# Altium footprint library PulseGenFPLib.PcbLib: 39 footprints (part 2 of 3)
Each footprint in its own frame and in the unit in brackets; x right, y up, seen from the top. Pads: shape width x height; smd on the part's side, far side on the other; paste and mask are expansions set on the pad; w line width, h text height; cw(c..) or ccw(c..) is an arc to the next point about the centre after c.
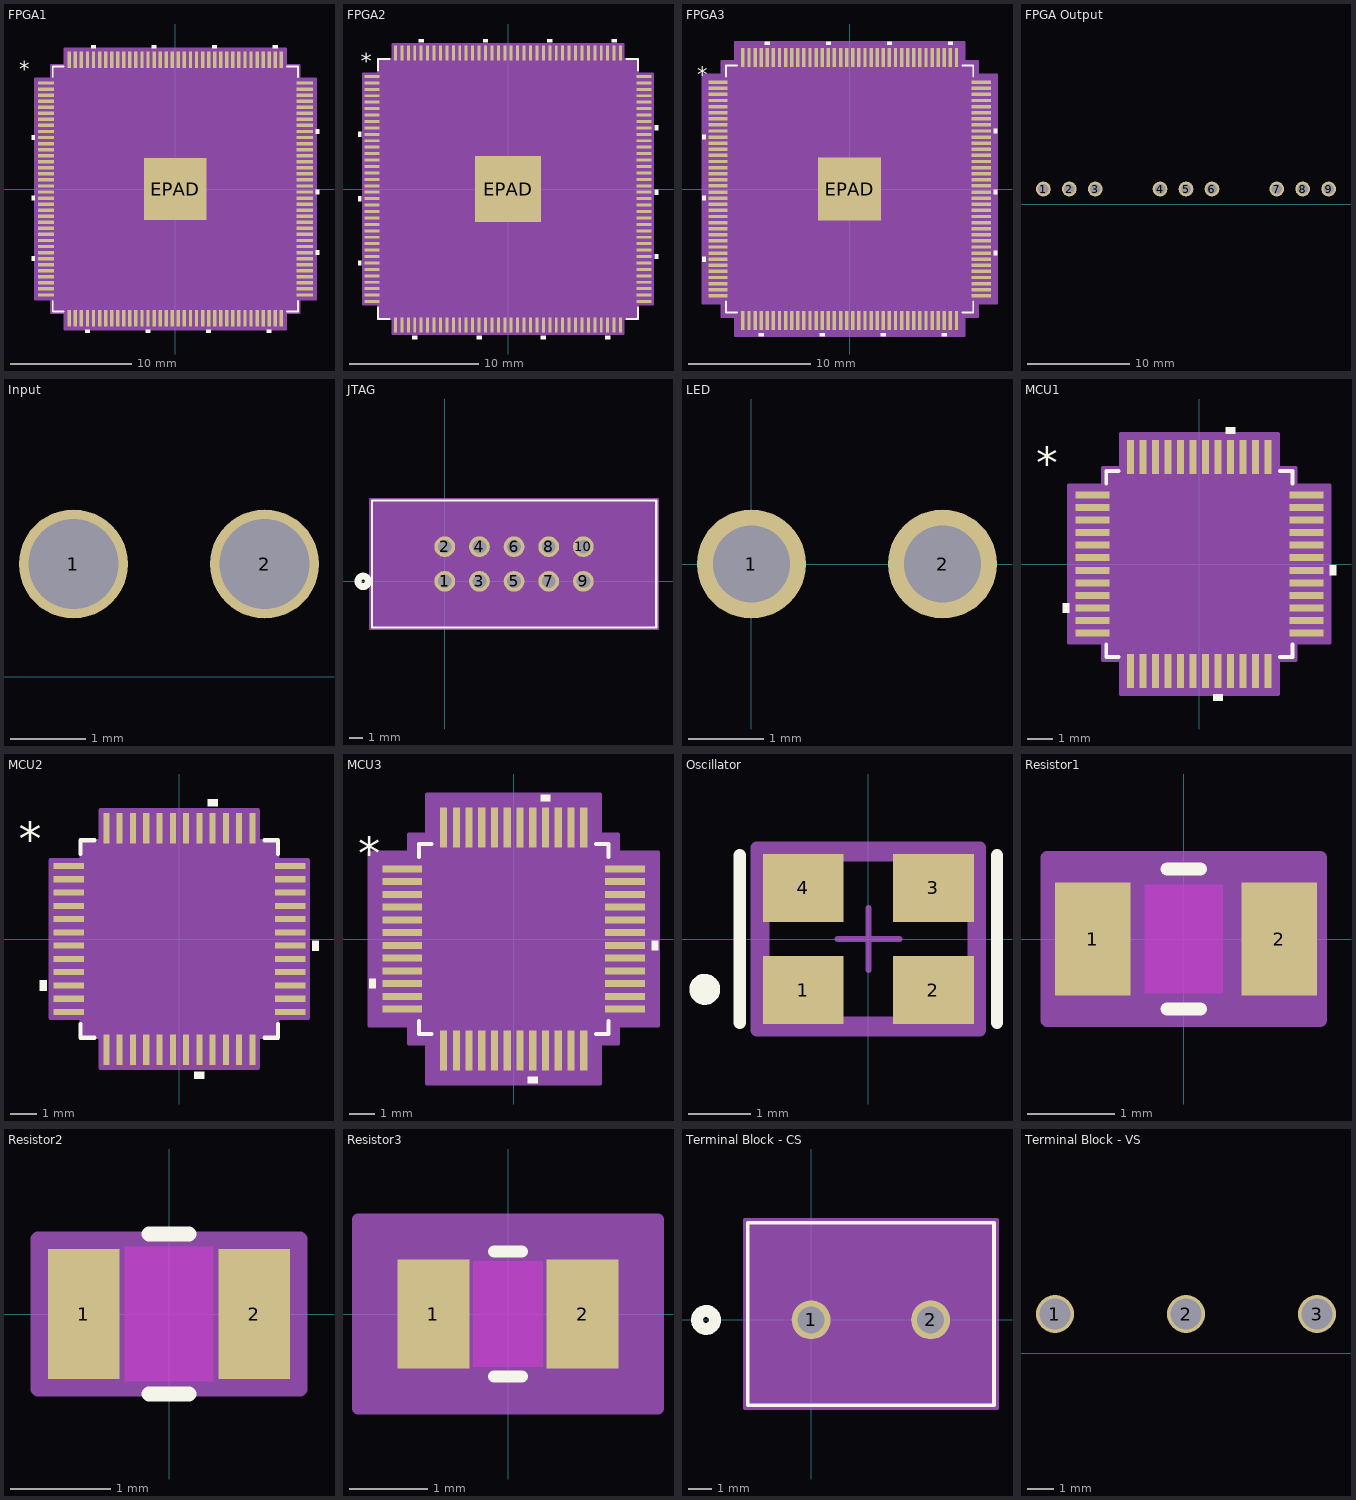
[diagram p1: the footprints below, top view; thin cyan lines are the x and y axes]

## FPGA1 [mil]
pads (145):
  rect 53.5x11 smd paste+0 mask+0: 1(-420.25,344.49) 2(-420.25,324.8) 3(-420.25,305.12) 4(-420.25,285.43) 5(-420.25,265.75) 6(-420.25,246.06) 7(-420.25,226.38) 8(-420.25,206.69) 9(-420.25,187.01) 10(-420.25,167.32) 11(-420.25,147.64) 12(-420.25,127.95) 13(-420.25,108.27) 14(-420.25,88.58) 15(-420.25,68.9) 16(-420.25,49.21) 17(-420.25,29.53) 18(-420.25,9.84) 19(-420.25,-9.84) 20(-420.25,-29.53) 21(-420.25,-49.21) 22(-420.25,-68.9) 23(-420.25,-88.58) 24(-420.25,-108.27) 25(-420.25,-127.95) 26(-420.25,-147.64) 27(-420.25,-167.32) 28(-420.25,-187.01) 29(-420.25,-206.69) 30(-420.25,-226.38) 31(-420.25,-246.06) 32(-420.25,-265.75) 33(-420.25,-285.43) 34(-420.25,-305.12) 35(-420.25,-324.8) 36(-420.25,-344.49) 73(420.25,-344.49) 74(420.25,-324.8) 75(420.25,-305.12) 76(420.25,-285.43) 77(420.25,-265.75) 78(420.25,-246.06) 79(420.25,-226.38) 80(420.25,-206.69) 81(420.25,-187.01) 82(420.25,-167.32) 83(420.25,-147.64) 84(420.25,-127.95) 85(420.25,-108.27) 86(420.25,-88.58) 87(420.25,-68.9) 88(420.25,-49.21) 89(420.25,-29.53) 90(420.25,-9.84) 91(420.25,9.84) 92(420.25,29.53) 93(420.25,49.21) 94(420.25,68.9) 95(420.25,88.58) 96(420.25,108.27) 97(420.25,127.95) 98(420.25,147.64) 99(420.25,167.32) 100(420.25,187.01) 101(420.25,206.69) 102(420.25,226.38) 103(420.25,246.06) 104(420.25,265.75) 105(420.25,285.43) 106(420.25,305.12) 107(420.25,324.8) 108(420.25,344.49)
  rect 11x53.5 smd paste+0 mask+0: 37(-344.49,-420.25) 38(-324.8,-420.25) 39(-305.12,-420.25) 40(-285.43,-420.25) 41(-265.75,-420.25) 42(-246.06,-420.25) 43(-226.38,-420.25) 44(-206.69,-420.25) 45(-187.01,-420.25) 46(-167.32,-420.25) 47(-147.64,-420.25) 48(-127.95,-420.25) 49(-108.27,-420.25) 50(-88.58,-420.25) 51(-68.9,-420.25) 52(-49.21,-420.25) 53(-29.53,-420.25) 54(-9.84,-420.25) 55(9.84,-420.25) 56(29.53,-420.25) 57(49.21,-420.25) 58(68.9,-420.25) 59(88.58,-420.25) 60(108.27,-420.25) 61(127.95,-420.25) 62(147.64,-420.25) 63(167.32,-420.25) 64(187.01,-420.25) 65(206.69,-420.25) 66(226.38,-420.25) 67(246.06,-420.25) 68(265.75,-420.25) 69(285.43,-420.25) 70(305.12,-420.25) 71(324.8,-420.25) 72(344.49,-420.25) 109(344.49,420.25) 110(324.8,420.25) 111(305.12,420.25) 112(285.43,420.25) 113(265.75,420.25) 114(246.06,420.25) 115(226.38,420.25) 116(206.69,420.25) 117(187.01,420.25) 118(167.32,420.25) 119(147.64,420.25) 120(127.95,420.25) 121(108.27,420.25) 122(88.58,420.25) 123(68.9,420.25) 124(49.21,420.25) 125(29.53,420.25) 126(9.84,420.25) 127(-9.84,420.25) 128(-29.53,420.25) 129(-49.21,420.25) 130(-68.9,420.25) 131(-88.58,420.25) 132(-108.27,420.25) 133(-127.95,420.25) 134(-147.64,420.25) 135(-167.32,420.25) 136(-187.01,420.25) 137(-206.69,420.25) 138(-226.38,420.25) 139(-246.06,420.25) 140(-265.75,420.25) 141(-285.43,420.25) 142(-305.12,420.25) 143(-324.8,420.25) 144(-344.49,420.25)
  rect 203x203 smd paste-101 mask+0: EPAD(0,0)
Top Overlay:
  region: -258.25,457 -273.25,457 -273.25,467 -258.25,467
  region: -61.4,457 -76.4,457 -76.4,467 -61.4,467
  region: 135.45,457 120.45,457 120.45,467 135.45,467
  region: 332.3,457 317.3,457 317.3,467 332.3,467
  region: 457,194.51 467,194.51 467,179.51 457,179.51
  region: 457,-2.34 467,-2.34 467,-17.34 457,-17.34
  region: 457,-199.19 467,-199.19 467,-214.19 457,-214.19
  region: 312.62,-457 297.62,-457 297.62,-467 312.62,-467
  region: 115.77,-457 100.77,-457 100.77,-467 115.77,-467
  region: -81.08,-457 -96.08,-457 -96.08,-467 -81.08,-467
  region: -277.93,-457 -292.93,-457 -292.93,-467 -277.93,-467
  region: -457,-218.88 -467,-218.88 -467,-233.88 -457,-233.88
  region: -457,-22.03 -467,-22.03 -467,-37.03 -457,-37.03
  region: -457,174.82 -467,174.82 -467,159.82 -457,159.82
  lines w6: -398.5,-363.09 -398.5,-398.5 -363.09,-398.5 ; -398.5,363.09 -398.5,398.5 -363.09,398.5 ; 363.09,-398.5 398.5,-398.5 398.5,-363.09 ; 363.09,398.5 398.5,398.5 398.5,363.09
  text "*" at -508,365 h50
Top Paste:
  region: 97.56,-54.69 54.69,-54.69 54.69,-97.56 97.56,-97.56
  region: 97.56,-3.94 54.69,-3.94 54.69,-46.81 97.56,-46.81
  region: 97.56,46.81 54.69,46.81 54.69,3.94 97.56,3.94
  region: 97.56,97.56 54.69,97.56 54.69,54.69 97.56,54.69
  region: 46.81,-54.69 3.94,-54.69 3.94,-97.56 46.81,-97.56
  region: 46.81,-3.94 3.94,-3.94 3.94,-46.81 46.81,-46.81
  region: 46.81,46.81 3.94,46.81 3.94,3.94 46.81,3.94
  region: 46.81,97.56 3.94,97.56 3.94,54.69 46.81,54.69
  region: -3.94,-54.69 -46.81,-54.69 -46.81,-97.56 -3.94,-97.56
  region: -3.94,-3.94 -46.81,-3.94 -46.81,-46.81 -3.94,-46.81
  region: -3.94,46.81 -46.81,46.81 -46.81,3.94 -3.94,3.94
  region: -3.94,97.56 -46.81,97.56 -46.81,54.69 -3.94,54.69
  region: -54.69,-54.69 -97.56,-54.69 -97.56,-97.56 -54.69,-97.56
  region: -54.69,-3.94 -97.56,-3.94 -97.56,-46.81 -54.69,-46.81
  region: -54.69,46.81 -97.56,46.81 -97.56,3.94 -54.69,3.94
  region: -54.69,97.56 -97.56,97.56 -97.56,54.69 -54.69,54.69
Mechanical 13:
  drawing of 581 lines, arcs and shapes, not listed
  text "*" at -391,329.33 h50
Mechanical 15:
  region: -359.99,-403.5 -403.5,-403.5 -403.5,-359.99 -457,-359.99 -457,359.99 -403.5,359.99 -403.5,403.5 -359.99,403.5 -359.99,457 359.99,457 359.99,403.5 403.5,403.5 403.5,359.99 457,359.99 457,-359.99 403.5,-359.99 403.5,-403.5 359.99,-403.5 359.99,-457 -359.99,-457
  lines w6: -457,-359.99 -457,359.99 -403.5,359.99 -403.5,403.5 -359.99,403.5 -359.99,457 359.99,457 359.99,403.5 403.5,403.5 403.5,359.99 457,359.99 457,-359.99 403.5,-359.99 403.5,-403.5 359.99,-403.5 359.99,-457 -359.99,-457 -359.99,-403.5 -403.5,-403.5 -403.5,-359.99 -457,-359.99
3D body "EQFP144_A165-D250_INT.step": height 65.12, standoff 0, extent -432.99,-432.99 432.99,432.99

## FPGA2 [mil]
pads (145):
  rect 45.5x9 smd paste+0 mask+0: 1(-416.25,344.49) 2(-416.25,324.8) 3(-416.25,305.12) 4(-416.25,285.43) 5(-416.25,265.75) 6(-416.25,246.06) 7(-416.25,226.38) 8(-416.25,206.69) 9(-416.25,187.01) 10(-416.25,167.32) 11(-416.25,147.64) 12(-416.25,127.95) 13(-416.25,108.27) 14(-416.25,88.58) 15(-416.25,68.9) 16(-416.25,49.21) 17(-416.25,29.53) 18(-416.25,9.84) 19(-416.25,-9.84) 20(-416.25,-29.53) 21(-416.25,-49.21) 22(-416.25,-68.9) 23(-416.25,-88.58) 24(-416.25,-108.27) 25(-416.25,-127.95) 26(-416.25,-147.64) 27(-416.25,-167.32) 28(-416.25,-187.01) 29(-416.25,-206.69) 30(-416.25,-226.38) 31(-416.25,-246.06) 32(-416.25,-265.75) 33(-416.25,-285.43) 34(-416.25,-305.12) 35(-416.25,-324.8) 36(-416.25,-344.49) 73(416.25,-344.49) 74(416.25,-324.8) 75(416.25,-305.12) 76(416.25,-285.43) 77(416.25,-265.75) 78(416.25,-246.06) 79(416.25,-226.38) 80(416.25,-206.69) 81(416.25,-187.01) 82(416.25,-167.32) 83(416.25,-147.64) 84(416.25,-127.95) 85(416.25,-108.27) 86(416.25,-88.58) 87(416.25,-68.9) 88(416.25,-49.21) 89(416.25,-29.53) 90(416.25,-9.84) 91(416.25,9.84) 92(416.25,29.53) 93(416.25,49.21) 94(416.25,68.9) 95(416.25,88.58) 96(416.25,108.27) 97(416.25,127.95) 98(416.25,147.64) 99(416.25,167.32) 100(416.25,187.01) 101(416.25,206.69) 102(416.25,226.38) 103(416.25,246.06) 104(416.25,265.75) 105(416.25,285.43) 106(416.25,305.12) 107(416.25,324.8) 108(416.25,344.49)
  rect 9x45.5 smd paste+0 mask+0: 37(-344.49,-416.25) 38(-324.8,-416.25) 39(-305.12,-416.25) 40(-285.43,-416.25) 41(-265.75,-416.25) 42(-246.06,-416.25) 43(-226.38,-416.25) 44(-206.69,-416.25) 45(-187.01,-416.25) 46(-167.32,-416.25) 47(-147.64,-416.25) 48(-127.95,-416.25) 49(-108.27,-416.25) 50(-88.58,-416.25) 51(-68.9,-416.25) 52(-49.21,-416.25) 53(-29.53,-416.25) 54(-9.84,-416.25) 55(9.84,-416.25) 56(29.53,-416.25) 57(49.21,-416.25) 58(68.9,-416.25) 59(88.58,-416.25) 60(108.27,-416.25) 61(127.95,-416.25) 62(147.64,-416.25) 63(167.32,-416.25) 64(187.01,-416.25) 65(206.69,-416.25) 66(226.38,-416.25) 67(246.06,-416.25) 68(265.75,-416.25) 69(285.43,-416.25) 70(305.12,-416.25) 71(324.8,-416.25) 72(344.49,-416.25) 109(344.49,416.25) 110(324.8,416.25) 111(305.12,416.25) 112(285.43,416.25) 113(265.75,416.25) 114(246.06,416.25) 115(226.38,416.25) 116(206.69,416.25) 117(187.01,416.25) 118(167.32,416.25) 119(147.64,416.25) 120(127.95,416.25) 121(108.27,416.25) 122(88.58,416.25) 123(68.9,416.25) 124(49.21,416.25) 125(29.53,416.25) 126(9.84,416.25) 127(-9.84,416.25) 128(-29.53,416.25) 129(-49.21,416.25) 130(-68.9,416.25) 131(-88.58,416.25) 132(-108.27,416.25) 133(-127.95,416.25) 134(-147.64,416.25) 135(-167.32,416.25) 136(-187.01,416.25) 137(-206.69,416.25) 138(-226.38,416.25) 139(-246.06,416.25) 140(-265.75,416.25) 141(-285.43,416.25) 142(-305.12,416.25) 143(-324.8,416.25) 144(-344.49,416.25)
  rect 203x203 smd paste-101 mask+0: EPAD(0,0)
Top Overlay:
  region: -449,174.82 -459,174.82 -459,159.82 -449,159.82
  region: -449,-22.03 -459,-22.03 -459,-37.03 -449,-37.03
  region: -449,-218.88 -459,-218.88 -459,-233.88 -449,-233.88
  region: -277.93,-449 -292.93,-449 -292.93,-459 -277.93,-459
  region: -81.08,-449 -96.08,-449 -96.08,-459 -81.08,-459
  region: 115.77,-449 100.77,-449 100.77,-459 115.77,-459
  region: 312.62,-449 297.62,-449 297.62,-459 312.62,-459
  region: 449,-199.19 459,-199.19 459,-214.19 449,-214.19
  region: 449,-2.34 459,-2.34 459,-17.34 449,-17.34
  region: 449,194.51 459,194.51 459,179.51 449,179.51
  region: 332.3,449 317.3,449 317.3,459 332.3,459
  region: 135.45,449 120.45,449 120.45,459 135.45,459
  region: -61.4,449 -76.4,449 -76.4,459 -61.4,459
  region: -258.25,449 -273.25,449 -273.25,459 -258.25,459
  lines w6: -398.5,-362.09 -398.5,-398.5 -362.09,-398.5 ; -398.5,362.09 -398.5,398.5 -362.09,398.5 ; 362.09,-398.5 398.5,-398.5 398.5,-362.09 ; 362.09,398.5 398.5,398.5 398.5,362.09
  text "*" at -450,365 h50
Top Paste:
  region: -54.69,97.56 -97.56,97.56 -97.56,54.69 -54.69,54.69
  region: -54.69,46.81 -97.56,46.81 -97.56,3.94 -54.69,3.94
  region: -54.69,-3.94 -97.56,-3.94 -97.56,-46.81 -54.69,-46.81
  region: -54.69,-54.69 -97.56,-54.69 -97.56,-97.56 -54.69,-97.56
  region: -3.94,97.56 -46.81,97.56 -46.81,54.69 -3.94,54.69
  region: -3.94,46.81 -46.81,46.81 -46.81,3.94 -3.94,3.94
  region: -3.94,-3.94 -46.81,-3.94 -46.81,-46.81 -3.94,-46.81
  region: -3.94,-54.69 -46.81,-54.69 -46.81,-97.56 -3.94,-97.56
  region: 46.81,97.56 3.94,97.56 3.94,54.69 46.81,54.69
  region: 46.81,46.81 3.94,46.81 3.94,3.94 46.81,3.94
  region: 46.81,-3.94 3.94,-3.94 3.94,-46.81 46.81,-46.81
  region: 46.81,-54.69 3.94,-54.69 3.94,-97.56 46.81,-97.56
  region: 97.56,97.56 54.69,97.56 54.69,54.69 97.56,54.69
  region: 97.56,46.81 54.69,46.81 54.69,3.94 97.56,3.94
  region: 97.56,-3.94 54.69,-3.94 54.69,-46.81 97.56,-46.81
  region: 97.56,-54.69 54.69,-54.69 54.69,-97.56 97.56,-97.56
Mechanical 13:
  drawing of 581 lines, arcs and shapes, not listed
  text "*" at -391,329.33 h50
Mechanical 15:
  region: -352.99,-397.5 -397.5,-397.5 -397.5,-352.99 -443,-352.99 -443,352.99 -397.5,352.99 -397.5,397.5 -352.99,397.5 -352.99,443 352.99,443 352.99,397.5 397.5,397.5 397.5,352.99 443,352.99 443,-352.99 397.5,-352.99 397.5,-397.5 352.99,-397.5 352.99,-443 -352.99,-443
  lines w6: -443,-352.99 -397.5,-352.99 -397.5,-397.5 -352.99,-397.5 -352.99,-443 352.99,-443 352.99,-397.5 397.5,-397.5 397.5,-352.99 443,-352.99 443,352.99 397.5,352.99 397.5,397.5 352.99,397.5 352.99,443 -352.99,443 -352.99,397.5 -397.5,397.5 -397.5,352.99 -443,352.99 -443,-352.99
3D body: height 10, standoff 0, extent 0,0 10,10

## FPGA3 [mil]
pads (145):
  rect 61.5x11 smd paste+0 mask+0: 1(-424.25,344.49) 2(-424.25,324.8) 3(-424.25,305.12) 4(-424.25,285.43) 5(-424.25,265.75) 6(-424.25,246.06) 7(-424.25,226.38) 8(-424.25,206.69) 9(-424.25,187.01) 10(-424.25,167.32) 11(-424.25,147.64) 12(-424.25,127.95) 13(-424.25,108.27) 14(-424.25,88.58) 15(-424.25,68.9) 16(-424.25,49.21) 17(-424.25,29.53) 18(-424.25,9.84) 19(-424.25,-9.84) 20(-424.25,-29.53) 21(-424.25,-49.21) 22(-424.25,-68.9) 23(-424.25,-88.58) 24(-424.25,-108.27) 25(-424.25,-127.95) 26(-424.25,-147.64) 27(-424.25,-167.32) 28(-424.25,-187.01) 29(-424.25,-206.69) 30(-424.25,-226.38) 31(-424.25,-246.06) 32(-424.25,-265.75) 33(-424.25,-285.43) 34(-424.25,-305.12) 35(-424.25,-324.8) 36(-424.25,-344.49) 73(424.25,-344.49) 74(424.25,-324.8) 75(424.25,-305.12) 76(424.25,-285.43) 77(424.25,-265.75) 78(424.25,-246.06) 79(424.25,-226.38) 80(424.25,-206.69) 81(424.25,-187.01) 82(424.25,-167.32) 83(424.25,-147.64) 84(424.25,-127.95) 85(424.25,-108.27) 86(424.25,-88.58) 87(424.25,-68.9) 88(424.25,-49.21) 89(424.25,-29.53) 90(424.25,-9.84) 91(424.25,9.84) 92(424.25,29.53) 93(424.25,49.21) 94(424.25,68.9) 95(424.25,88.58) 96(424.25,108.27) 97(424.25,127.95) 98(424.25,147.64) 99(424.25,167.32) 100(424.25,187.01) 101(424.25,206.69) 102(424.25,226.38) 103(424.25,246.06) 104(424.25,265.75) 105(424.25,285.43) 106(424.25,305.12) 107(424.25,324.8) 108(424.25,344.49)
  rect 11x61.5 smd paste+0 mask+0: 37(-344.49,-424.25) 38(-324.8,-424.25) 39(-305.12,-424.25) 40(-285.43,-424.25) 41(-265.75,-424.25) 42(-246.06,-424.25) 43(-226.38,-424.25) 44(-206.69,-424.25) 45(-187.01,-424.25) 46(-167.32,-424.25) 47(-147.64,-424.25) 48(-127.95,-424.25) 49(-108.27,-424.25) 50(-88.58,-424.25) 51(-68.9,-424.25) 52(-49.21,-424.25) 53(-29.53,-424.25) 54(-9.84,-424.25) 55(9.84,-424.25) 56(29.53,-424.25) 57(49.21,-424.25) 58(68.9,-424.25) 59(88.58,-424.25) 60(108.27,-424.25) 61(127.95,-424.25) 62(147.64,-424.25) 63(167.32,-424.25) 64(187.01,-424.25) 65(206.69,-424.25) 66(226.38,-424.25) 67(246.06,-424.25) 68(265.75,-424.25) 69(285.43,-424.25) 70(305.12,-424.25) 71(324.8,-424.25) 72(344.49,-424.25) 109(344.49,424.25) 110(324.8,424.25) 111(305.12,424.25) 112(285.43,424.25) 113(265.75,424.25) 114(246.06,424.25) 115(226.38,424.25) 116(206.69,424.25) 117(187.01,424.25) 118(167.32,424.25) 119(147.64,424.25) 120(127.95,424.25) 121(108.27,424.25) 122(88.58,424.25) 123(68.9,424.25) 124(49.21,424.25) 125(29.53,424.25) 126(9.84,424.25) 127(-9.84,424.25) 128(-29.53,424.25) 129(-49.21,424.25) 130(-68.9,424.25) 131(-88.58,424.25) 132(-108.27,424.25) 133(-127.95,424.25) 134(-147.64,424.25) 135(-167.32,424.25) 136(-187.01,424.25) 137(-206.69,424.25) 138(-226.38,424.25) 139(-246.06,424.25) 140(-265.75,424.25) 141(-285.43,424.25) 142(-305.12,424.25) 143(-324.8,424.25) 144(-344.49,424.25)
  rect 203x203 smd paste-101 mask+0: EPAD(0,0)
Top Overlay:
  region: -465,174.82 -475,174.82 -475,159.82 -465,159.82
  region: -465,-22.03 -475,-22.03 -475,-37.03 -465,-37.03
  region: -465,-218.88 -475,-218.88 -475,-233.88 -465,-233.88
  region: -277.93,-465 -292.93,-465 -292.93,-475 -277.93,-475
  region: -81.08,-465 -96.08,-465 -96.08,-475 -81.08,-475
  region: 115.77,-465 100.77,-465 100.77,-475 115.77,-475
  region: 312.62,-465 297.62,-465 297.62,-475 312.62,-475
  region: 465,-199.19 475,-199.19 475,-214.19 465,-214.19
  region: 465,-2.34 475,-2.34 475,-17.34 465,-17.34
  region: 465,194.51 475,194.51 475,179.51 465,179.51
  region: 332.3,465 317.3,465 317.3,475 332.3,475
  region: 135.45,465 120.45,465 120.45,475 135.45,475
  region: -61.4,465 -76.4,465 -76.4,475 -61.4,475
  region: -258.25,465 -273.25,465 -273.25,475 -258.25,475
  lines w6: -398.5,-363.09 -398.5,-398.5 -363.09,-398.5 ; -398.5,363.09 -398.5,398.5 -363.09,398.5 ; 363.09,-398.5 398.5,-398.5 398.5,-363.09 ; 363.09,398.5 398.5,398.5 398.5,363.09
  text "*" at -492.5,344.33 h50
Top Paste:
  region: -54.69,97.56 -97.56,97.56 -97.56,54.69 -54.69,54.69
  region: -54.69,46.81 -97.56,46.81 -97.56,3.94 -54.69,3.94
  region: -54.69,-3.94 -97.56,-3.94 -97.56,-46.81 -54.69,-46.81
  region: -54.69,-54.69 -97.56,-54.69 -97.56,-97.56 -54.69,-97.56
  region: -3.94,97.56 -46.81,97.56 -46.81,54.69 -3.94,54.69
  region: -3.94,46.81 -46.81,46.81 -46.81,3.94 -3.94,3.94
  region: -3.94,-3.94 -46.81,-3.94 -46.81,-46.81 -3.94,-46.81
  region: -3.94,-54.69 -46.81,-54.69 -46.81,-97.56 -3.94,-97.56
  region: 46.81,97.56 3.94,97.56 3.94,54.69 46.81,54.69
  region: 46.81,46.81 3.94,46.81 3.94,3.94 46.81,3.94
  region: 46.81,-3.94 3.94,-3.94 3.94,-46.81 46.81,-46.81
  region: 46.81,-54.69 3.94,-54.69 3.94,-97.56 46.81,-97.56
  region: 97.56,97.56 54.69,97.56 54.69,54.69 97.56,54.69
  region: 97.56,46.81 54.69,46.81 54.69,3.94 97.56,3.94
  region: 97.56,-3.94 54.69,-3.94 54.69,-46.81 97.56,-46.81
  region: 97.56,-54.69 54.69,-54.69 54.69,-97.56 97.56,-97.56
Mechanical 13:
  drawing of 581 lines, arcs and shapes, not listed
  text "*" at -391,329.33 h50
Mechanical 15:
  region: -369.99,-413.5 -413.5,-413.5 -413.5,-369.99 -475,-369.99 -475,369.99 -413.5,369.99 -413.5,413.5 -369.99,413.5 -369.99,475 369.99,475 369.99,413.5 413.5,413.5 413.5,369.99 475,369.99 475,-369.99 413.5,-369.99 413.5,-413.5 369.99,-413.5 369.99,-475 -369.99,-475
  lines w6: -475,-369.99 -413.5,-369.99 -413.5,-413.5 -369.99,-413.5 -369.99,-475 369.99,-475 369.99,-413.5 413.5,-413.5 413.5,-369.99 475,-369.99 475,369.99 413.5,369.99 413.5,413.5 369.99,413.5 369.99,475 -369.99,475 -369.99,413.5 -413.5,413.5 -413.5,369.99 -475,369.99 -475,-369.99
3D body: height 10, standoff 0, extent 0,0 10,10

## FPGA Output [mil]
pads (9):
  round 57 hole 40.16 paste-99999 mask+0: 1(211,59) 2(311,59) 3(411,59) 4(661,59) 5(761,59) 6(861,59) 7(1111,59) 8(1211,59) 9(1311,59)

## Input [mil] "Input block for Voltage Reg"
pads (2):
  round 57 hole 47 paste-99999 mask+0: 1(111,59) 2(211,59)

## JTAG [mil]
pads (10):
  round 60 hole 40 paste-99999 mask+0: 1(0,0) 2(0,100) 3(100,0) 4(100,100) 5(200,0) 6(200,100) 7(300,0) 8(300,100) 9(400,0) 10(400,100)
Top Overlay:
  circle w20: c-235.5,0 r15
  lines w6: -210.5,-133 -210.5,233 610.5,233 610.5,-133 -210.5,-133
Bottom Overlay:
  circle w20: c-235.5,0 r15
Mechanical 13:
  circle w20: c0,-75 r15
  lines w1: -205.5,-128 -205.5,228 605.5,228 605.5,-128 -205.5,-128
Mechanical 15:
  region: 615.5,238 -215.5,238 -215.5,-138 615.5,-138
  lines w6: -215.5,-138 615.5,-138 615.5,238 -215.5,238 -215.5,-138

## LED [mil]
pads (2):
  round 57 hole 40.16 paste-99999 mask+0: 1(0,0) 2(100,0)

## MCU1 [mil]
pads (48):
  rect 53.5x11 smd paste+0 mask+0: 1(-168.25,108.3) 2(-168.25,88.61) 3(-168.25,68.92) 4(-168.25,49.23) 5(-168.25,29.54) 6(-168.25,9.85) 7(-168.25,-9.85) 8(-168.25,-29.54) 9(-168.25,-49.23) 10(-168.25,-68.92) 11(-168.25,-88.61) 12(-168.25,-108.3) 25(168.25,-108.3) 26(168.25,-88.61) 27(168.25,-68.92) 28(168.25,-49.23) 29(168.25,-29.54) 30(168.25,-9.85) 31(168.25,9.85) 32(168.25,29.54) 33(168.25,49.23) 34(168.25,68.92) 35(168.25,88.61) 36(168.25,108.3)
  rect 11x53.5 smd paste+0 mask+0: 13(-108.3,-168.25) 14(-88.61,-168.25) 15(-68.92,-168.25) 16(-49.23,-168.25) 17(-29.54,-168.25) 18(-9.85,-168.25) 19(9.85,-168.25) 20(29.54,-168.25) 21(49.23,-168.25) 22(68.92,-168.25) 23(88.61,-168.25) 24(108.3,-168.25) 37(108.3,168.25) 38(88.61,168.25) 39(68.92,168.25) 40(49.23,168.25) 41(29.54,168.25) 42(9.85,168.25) 43(-9.85,168.25) 44(-29.54,168.25) 45(-49.23,168.25) 46(-68.92,168.25) 47(-88.61,168.25) 48(-108.3,168.25)
Top Overlay:
  region: 56.73,205 41.73,205 41.73,215 56.73,215
  region: 205,-2.35 215,-2.35 215,-17.34 205,-17.34
  region: 37.03,-205 22.04,-205 22.04,-215 37.03,-215
  region: -205,-61.41 -215,-61.41 -215,-76.42 -205,-76.42
  lines w6: -146.5,-126.89 -146.5,-146.5 -126.89,-146.5 ; -146.5,126.89 -146.5,146.5 -126.89,146.5 ; 126.89,-146.5 146.5,-146.5 146.5,-126.89 ; 126.89,146.5 146.5,146.5 146.5,126.89
  text "*" at -257,135 h50
Mechanical 13:
  drawing of 197 lines, arcs and shapes, not listed
  text "*" at -139,93.14 h50
Mechanical 15:
  region: -123.8,-151.5 -151.5,-151.5 -151.5,-123.8 -205,-123.8 -205,123.8 -151.5,123.8 -151.5,151.5 -123.8,151.5 -123.8,205 123.8,205 123.8,151.5 151.5,151.5 151.5,123.8 205,123.8 205,-123.8 151.5,-123.8 151.5,-151.5 123.8,-151.5 123.8,-205 -123.8,-205
  lines w6: -205,-123.8 -205,123.8 -151.5,123.8 -151.5,151.5 -123.8,151.5 -123.8,205 123.8,205 123.8,151.5 151.5,151.5 151.5,123.8 205,123.8 205,-123.8 151.5,-123.8 151.5,-151.5 123.8,-151.5 123.8,-205 -123.8,-205 -123.8,-151.5 -151.5,-151.5 -151.5,-123.8 -205,-123.8
3D body "LQFP_491CET6_STM.step": height 63.11, standoff 0, extent -180.98,-180.98 180.98,180.98

## MCU2 [mil]
pads (48):
  rect 45.5x9 smd paste+0 mask+0: 1(-164.25,108.3) 2(-164.25,88.61) 3(-164.25,68.92) 4(-164.25,49.23) 5(-164.25,29.54) 6(-164.25,9.85) 7(-164.25,-9.85) 8(-164.25,-29.54) 9(-164.25,-49.23) 10(-164.25,-68.92) 11(-164.25,-88.61) 12(-164.25,-108.3) 25(164.25,-108.3) 26(164.25,-88.61) 27(164.25,-68.92) 28(164.25,-49.23) 29(164.25,-29.54) 30(164.25,-9.85) 31(164.25,9.85) 32(164.25,29.54) 33(164.25,49.23) 34(164.25,68.92) 35(164.25,88.61) 36(164.25,108.3)
  rect 9x45.5 smd paste+0 mask+0: 13(-108.3,-164.25) 14(-88.61,-164.25) 15(-68.92,-164.25) 16(-49.23,-164.25) 17(-29.54,-164.25) 18(-9.85,-164.25) 19(9.85,-164.25) 20(29.54,-164.25) 21(49.23,-164.25) 22(68.92,-164.25) 23(88.61,-164.25) 24(108.3,-164.25) 37(108.3,164.25) 38(88.61,164.25) 39(68.92,164.25) 40(49.23,164.25) 41(29.54,164.25) 42(9.85,164.25) 43(-9.85,164.25) 44(-29.54,164.25) 45(-49.23,164.25) 46(-68.92,164.25) 47(-88.61,164.25) 48(-108.3,164.25)
Top Overlay:
  region: -197,-61.41 -207,-61.41 -207,-76.42 -197,-76.42
  region: 37.03,-197 22.04,-197 22.04,-207 37.03,-207
  region: 197,-2.35 207,-2.35 207,-17.34 197,-17.34
  region: 56.73,197 41.73,197 41.73,207 56.73,207
  lines w6: -146.5,-125.89 -146.5,-146.5 -125.89,-146.5 ; -146.5,125.89 -146.5,146.5 -125.89,146.5 ; 125.89,-146.5 146.5,-146.5 146.5,-125.89 ; 125.89,146.5 146.5,146.5 146.5,125.89
  text "*" at -238,124 h50
Mechanical 13:
  drawing of 197 lines, arcs and shapes, not listed
  text "*" at -139,93.14 h50
Mechanical 15:
  region: -116.8,-145.5 -145.5,-145.5 -145.5,-116.8 -191,-116.8 -191,116.8 -145.5,116.8 -145.5,145.5 -116.8,145.5 -116.8,191 116.8,191 116.8,145.5 145.5,145.5 145.5,116.8 191,116.8 191,-116.8 145.5,-116.8 145.5,-145.5 116.8,-145.5 116.8,-191 -116.8,-191
  lines w6: -191,-116.8 -145.5,-116.8 -145.5,-145.5 -116.8,-145.5 -116.8,-191 116.8,-191 116.8,-145.5 145.5,-145.5 145.5,-116.8 191,-116.8 191,116.8 145.5,116.8 145.5,145.5 116.8,145.5 116.8,191 -116.8,191 -116.8,145.5 -145.5,145.5 -145.5,116.8 -191,116.8 -191,-116.8
3D body "LQFP_491CET6_STM.step": height 63.11, standoff 0, extent -180.98,-180.98 180.98,180.98

## MCU3 [mil]
pads (48):
  rect 61.5x11 smd paste+0 mask+0: 1(-172.25,108.3) 2(-172.25,88.61) 3(-172.25,68.92) 4(-172.25,49.23) 5(-172.25,29.54) 6(-172.25,9.85) 7(-172.25,-9.85) 8(-172.25,-29.54) 9(-172.25,-49.23) 10(-172.25,-68.92) 11(-172.25,-88.61) 12(-172.25,-108.3) 25(172.25,-108.3) 26(172.25,-88.61) 27(172.25,-68.92) 28(172.25,-49.23) 29(172.25,-29.54) 30(172.25,-9.85) 31(172.25,9.85) 32(172.25,29.54) 33(172.25,49.23) 34(172.25,68.92) 35(172.25,88.61) 36(172.25,108.3)
  rect 11x61.5 smd paste+0 mask+0: 13(-108.3,-172.25) 14(-88.61,-172.25) 15(-68.92,-172.25) 16(-49.23,-172.25) 17(-29.54,-172.25) 18(-9.85,-172.25) 19(9.85,-172.25) 20(29.54,-172.25) 21(49.23,-172.25) 22(68.92,-172.25) 23(88.61,-172.25) 24(108.3,-172.25) 37(108.3,172.25) 38(88.61,172.25) 39(68.92,172.25) 40(49.23,172.25) 41(29.54,172.25) 42(9.85,172.25) 43(-9.85,172.25) 44(-29.54,172.25) 45(-49.23,172.25) 46(-68.92,172.25) 47(-88.61,172.25) 48(-108.3,172.25)
Top Overlay:
  region: -213,-61.41 -223,-61.41 -223,-76.42 -213,-76.42
  region: 37.03,-213 22.04,-213 22.04,-223 37.03,-223
  region: 213,-2.35 223,-2.35 223,-17.34 213,-17.34
  region: 56.73,213 41.73,213 41.73,223 56.73,223
  lines w6: -146.5,-126.89 -146.5,-146.5 -126.89,-146.5 ; -146.5,126.89 -146.5,146.5 -126.89,146.5 ; 126.89,-146.5 146.5,-146.5 146.5,-126.89 ; 126.89,146.5 146.5,146.5 146.5,126.89
  text "*" at -240.5,108.14 h50
Mechanical 13:
  drawing of 197 lines, arcs and shapes, not listed
  text "*" at -139,93.14 h50
Mechanical 15:
  region: -133.79,-161.5 -161.5,-161.5 -161.5,-133.79 -223,-133.79 -223,133.79 -161.5,133.79 -161.5,161.5 -133.79,161.5 -133.79,223 133.79,223 133.79,161.5 161.5,161.5 161.5,133.79 223,133.79 223,-133.79 161.5,-133.79 161.5,-161.5 133.79,-161.5 133.79,-223 -133.79,-223
  lines w6: -223,-133.79 -161.5,-133.79 -161.5,-161.5 -133.79,-161.5 -133.79,-223 133.79,-223 133.79,-161.5 161.5,-161.5 161.5,-133.79 223,-133.79 223,133.79 161.5,133.79 161.5,161.5 133.79,161.5 133.79,223 -133.79,223 -133.79,161.5 -161.5,161.5 -161.5,133.79 -223,133.79 -223,-133.79
3D body "LQFP_491CET6_STM.step": height 63.11, standoff 0, extent -180.98,-180.98 180.98,180.98

## Oscillator [mm]
pads (4):
  rect 1.3x1.1 smd paste+0 mask+0: 1(-1.05,-0.825) 2(1.05,-0.825) 3(1.05,0.825) 4(-1.05,0.825)
Top Overlay:
  circle w0.25: c-2.642,-0.813 r0.125
  lines w0.2: -2.075,-1.35 -2.075,1.35 ; 2.075,-1.35 2.075,1.35
Top 3D Body:
  lines w0.2: -1.7,-1.35 1.7,-1.35 1.7,1.35 -1.7,1.35 -1.7,-1.35
Top Courtyard:
  lines w0.2: -1.8,-1.475 1.8,-1.475 1.8,1.475 -1.8,1.475 -1.8,-1.475
Top Assembly:
  lines w0.2: -1.8,-1.475 1.8,-1.475 1.8,1.475 -1.8,1.475 -1.8,-1.475
  text ".Designator" at 0,0.188 h1
Top Component Center:
  lines w0.1: -0.5,0 0.5,0 ; 0,-0.5 0,0.5
3D body "Crys_Abracon_ASE-26_000MHZ-LR-T_eec.STEP": height 0.25, standoff 0, extent -1.8,-1.475 1.8,1.475

## Resistor1 [mil]
pads (2):
  rect 34x51 smd paste+0 mask+0: 1(-41,0) 2(43,0)
Top Layer keep-out:
  region: -17.5,-24.5 -17.5,24.5 17.5,24.5 17.5,-24.5
Top Overlay:
  lines w6: -7.39,-31.5 7.39,-31.5 ; -7.39,31.5 7.39,31.5
Mechanical 13:
  lines w1: -43.5,-26.5 43.5,-26.5 ; -43.5,-26.5 -43.5,26.5 ; -43.5,-26.5 -43.5,26.5 ; -43.5,-26.5 -19.5,-26.5 -19.5,26.5 -43.5,26.5 ; -43.5,26.5 43.5,26.5 ; 43.5,-26.5 43.5,26.5 ; 43.5,-26.5 19.5,-26.5 19.5,26.5 43.5,26.5 ; 43.5,-26.5 43.5,26.5
Mechanical 15:
  region: 61.5,-36.5 -61.5,-36.5 -61.5,36.5 61.5,36.5
  lines w6: -61.5,-36.5 -61.5,36.5 61.5,36.5 61.5,-36.5 -61.5,-36.5
3D body "STA_RMCF0805_STP.step": height 25.98, standoff 0, extent -43.5,-26.5 43.5,26.5

## Resistor2 [mil]
pads (2):
  rect 28x51 smd paste+0 mask+0: 1(-33.5,0) 2(33.5,0)
Top Layer keep-out:
  region: -17.5,-24.5 -17.5,24.5 17.5,24.5 17.5,-24.5
Top Overlay:
  lines w6: -7.85,-31.5 7.85,-31.5 ; -7.85,31.5 7.85,31.5
Keep-Out Layer:
  region: -17.5,-26.5 -17.5,26.5 17.5,26.5 17.5,-26.5
Mechanical 13:
  lines w1: -43.5,-26.5 -43.5,26.5 ; -43.5,-26.5 43.5,-26.5 ; -43.5,-26.5 -19.5,-26.5 -19.5,26.5 -43.5,26.5 ; -43.5,-26.5 -43.5,26.5 ; -43.5,26.5 43.5,26.5 ; 43.5,-26.5 43.5,26.5 ; 43.5,-26.5 43.5,26.5 ; 43.5,-26.5 19.5,-26.5 19.5,26.5 43.5,26.5
Mechanical 15:
  region: 51.5,-29.5 -51.5,-29.5 -51.5,29.5 51.5,29.5
  lines w6: -51.5,-29.5 51.5,-29.5 51.5,29.5 -51.5,29.5 -51.5,-29.5
3D body "STA_RMCF0805_STP.step": height 25.98, standoff 0, extent -43.5,-26.5 43.5,26.5

## Resistor3 [mil]
pads (2):
  rect 36x55 smd paste+0 mask+0: 1(-37.5,0) 2(37.5,0)
Top Layer keep-out:
  region: -17.5,-24.5 -17.5,24.5 17.5,24.5 17.5,-24.5
Top Overlay:
  lines w6: -7.03,-31.5 7.03,-31.5 ; -7.03,31.5 7.03,31.5
Keep-Out Layer:
  region: -17.5,-26.5 -17.5,26.5 17.5,26.5 17.5,-26.5
Mechanical 13:
  lines w1: -43.5,-26.5 -43.5,26.5 ; -43.5,-26.5 -19.5,-26.5 -19.5,26.5 -43.5,26.5 ; -43.5,-26.5 43.5,-26.5 ; -43.5,-26.5 -43.5,26.5 ; -43.5,26.5 43.5,26.5 ; 43.5,-26.5 19.5,-26.5 19.5,26.5 43.5,26.5 ; 43.5,-26.5 43.5,26.5 ; 43.5,-26.5 43.5,26.5
Mechanical 15:
  region: 75.5,-47.5 -75.5,-47.5 -75.5,47.5 75.5,47.5
  lines w6: -75.5,-47.5 -75.5,47.5 75.5,47.5 75.5,-47.5 -75.5,-47.5
3D body "STA_RMCF0805_STP.step": height 25.98, standoff 0, extent -43.5,-26.5 43.5,26.5

## Terminal Block - CS [mil]
pads (2):
  round 65 / inner round 60 / far side round 65 hole 45 paste-99999 mask+0: 1(0,0) 2(200,0)
Top Overlay:
  circle w20: c-176,0 r15
  lines w6: -106,-142.52 -106,162.48 306,162.48 306,-142.52 -106,-142.52
Bottom Overlay:
  circle w20: c-176,0 r15
Mechanical 13:
  circle w20: c0,-75 r15
  lines w1: -101,-137.52 -101,157.48 301,157.48 301,-137.52 -101,-137.52
Mechanical 15:
  region: 311,167.48 -111,167.48 -111,-147.52 311,-147.52
  lines w6: -111,-147.52 311,-147.52 311,167.48 -111,167.48 -111,-147.52

## Terminal Block - VS [mil] "8719"
pads (3):
  round 57 hole 47 paste-99999 mask+0: 1(111,59) 2(308,59) 3(505,59)